# EAGLE library part S15B-PH-* (library jst-ph)
Wire-to-Board 2.0mm pitch side mount connector Source: http://www.jst-mfg.com/product/pdf/jpn/PH.pdf http://www.jst-mfg.com/product/detail.php?series=199
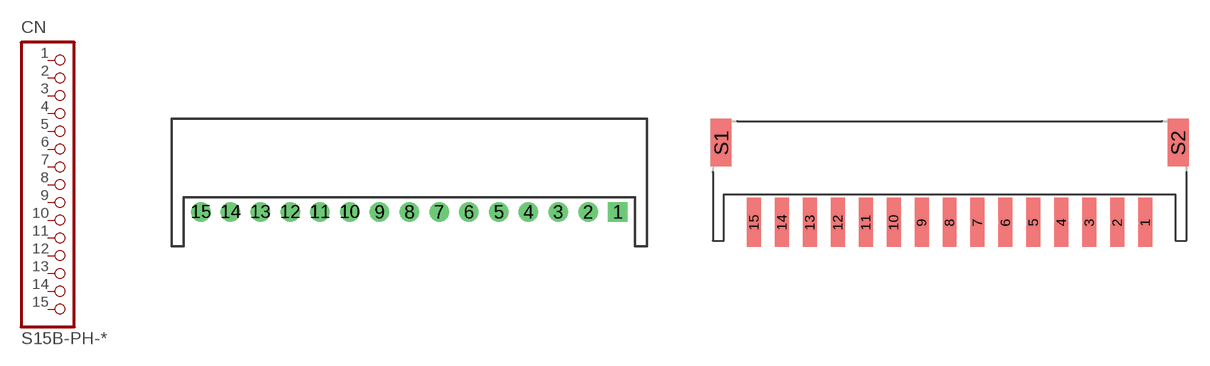
[diagram p20: symbol with the pads of S15B-PH-K-S; footprints S15B-PH-K-S, S15B-PH-SM4-TB]

Designator prefix CN

## S15B-PH-K-S  [S15B-PH-K-S]
1  1  pas
2  2  pas
3  3  pas
4  4  pas
5  5  pas
6  6  pas
7  7  pas
8  8  pas
9  9  pas
10  10  pas
11  11  pas
12  12  pas
13  13  pas
14  14  pas
15  15  pas

## S15B-PH-SM4-TB  [S15B-PH-SM4-TB]
Pads as for S15B-PH-K-S

## Footprint S15B-PH-K-S (pad centres in mm)
drill 0.8 square: 1 14,0
drill 0.8: 2 12,0; 3 10,0; 4 8,0; 5 6,0; 6 4,0; 7 2,0; 8 0,0; 9 -2,0; 10 -4,0; 11 -6,0; 12 -8,0; 13 -10,0; 14 -12,0; 15 -14,0

## Footprint S15B-PH-SM4-TB (pad centres in mm)
smd 1 x 3.5: 1 14,-1; 2 12,-1; 3 10,-1; 4 8,-1; 5 6,-1; 6 4,-1; 7 2,-1; 8 0,-1; 9 -2,-1; 10 -4,-1; 11 -6,-1; 12 -8,-1; 13 -10,-1; 14 -12,-1; 15 -14,-1
smd 1.5 x 3.4: S1 -16.35,4.7; S2 16.35,4.7